# EAGLE library part TS5A3160DBVT (library glacsweb)
.9 ohm changeover analogue switch
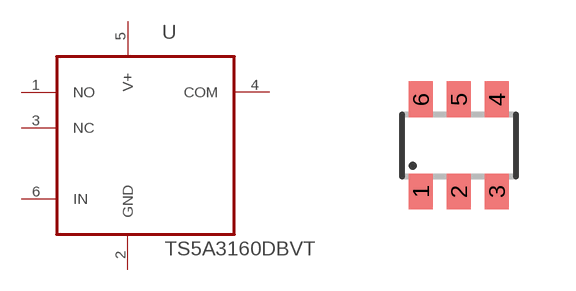
[diagram p13: symbol with the pads of SOT23-6; footprint SOT23-6]

Designator prefix -

## TS5A3160DBVT (MANUFACTURER: Texas Instruments; MPN: TS5A3160DBVT; OC_FARNELL: 1755408; PACKAGE: SOT23-6)  [SOT23-6]
1  NO
2  GND  pas
3  NC
4  COM  out
5  V+  pwr
6  IN  in

## Footprint SOT23-6 (pad centres in mm)
Small Outline Transistor 6 lead
smd 0.6 x 0.9: 1 -0.95,-1.15; 2 0,-1.15; 3 0.95,-1.15; 4 0.95,1.15; 5 0,1.15; 6 -0.95,1.15